# EAGLE library part CH340C (library Power_Buggy_Parts)
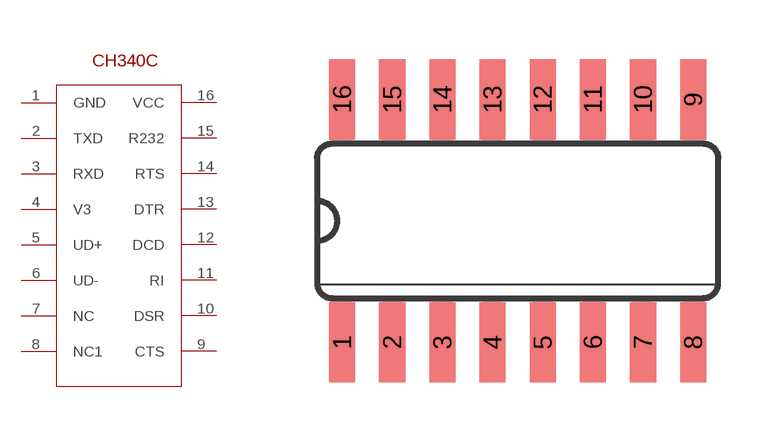
[diagram p1: symbol with the pads of SO16; footprint SO16]

Designator prefix -

## CH340C  [SO16]
1  GND
2  TXD
3  RXD
4  V3
5  UD+
6  UD-
7  NC
8  NC1
9  CTS
10  DSR
11  RI
12  DCD
13  DTR
14  RTS
15  R232
16  VCC

## Footprint SO16 (pad centres in mm)
Small Outline Package 16
smd 0.66 x 2.032: 1 -4.445,-3.073; 2 -3.175,-3.073; 3 -1.905,-3.073; 4 -0.635,-3.073; 5 0.635,-3.073; 6 1.905,-3.073; 7 3.175,-3.073; 8 4.445,-3.073; 9 4.445,3.073; 10 3.175,3.073; 11 1.905,3.073; 12 0.635,3.073; 13 -0.635,3.073; 14 -1.905,3.073; 15 -3.175,3.073; 16 -4.445,3.073